# EAGLE library part J30J-9 (library CM_J30J)
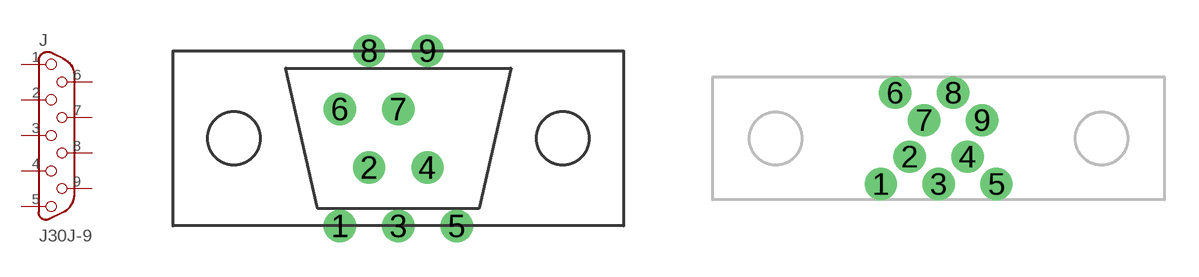
[diagram p0: symbol with the pads of ZKN-9; footprints ZKN-9, ZKN-9-J30]

Designator prefix J

## J30J-9J30J  [ZKN-9]
1  1
2  2
3  3
4  4
5  5
6  6
7  7
8  8
9  9

## J30J-9J30  [ZKN-9-J30]
Pads as for ZKN-9

## Footprint ZKN-9 (pad centres in mm)
drill 0.9: 1 -2.54,-3.81; 2 -1.27,-1.27; 3 0,-3.81; 4 1.27,-1.27; 5 2.54,-3.81; 6 -2.54,1.27; 7 0,1.27; 8 -1.27,3.81; 9 1.27,3.81

## Footprint ZKN-9-J30 (pad centres in mm)
drill 0.9: 1 -2.54,-2; 2 -1.27,-0.8; 3 0,-2; 4 1.27,-0.8; 5 2.54,-2; 6 -1.905,2; 7 -0.635,0.8; 8 0.635,2; 9 1.905,0.8